# EAGLE library part MAX_3051 (library upenn_digital)
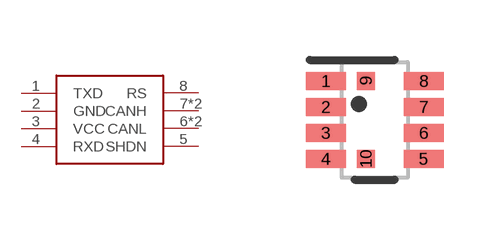
[diagram p0: symbol with the pads of SOT23-8L_BYPASS; footprint SOT23-8L_BYPASS]

Designator prefix U

## MAX_3051  [SOT23-8L_BYPASS]
1  TXD
2  GND
3  VCC
4  RXD
5  SHDN
6  CANL
7  CANH
8  RS
9  CANH
10  CANL

## Footprint SOT23-8L_BYPASS (pad centres in mm)
smd 1 x 0.45: 1 -1.225,0.975; 2 -1.225,0.325; 3 -1.225,-0.325; 4 -1.225,-0.975; 5 1.225,-0.975; 6 1.225,-0.325; 7 1.225,0.325; 8 1.225,0.975
smd 0.45 x 0.45: 9 -0.225,0.975; 10 -0.225,-0.975